# Altium footprint library FootPrintLib_4.PcbLib: 700 footprints (part 36 of 44)
Each footprint in its own frame and in the unit in brackets; x right, y up, seen from the top. Pads: shape width x height; smd on the part's side, far side on the other; paste and mask are expansions set on the pad; w line width, h text height; cw(c..) or ccw(c..) is an arc to the next point about the centre after c.
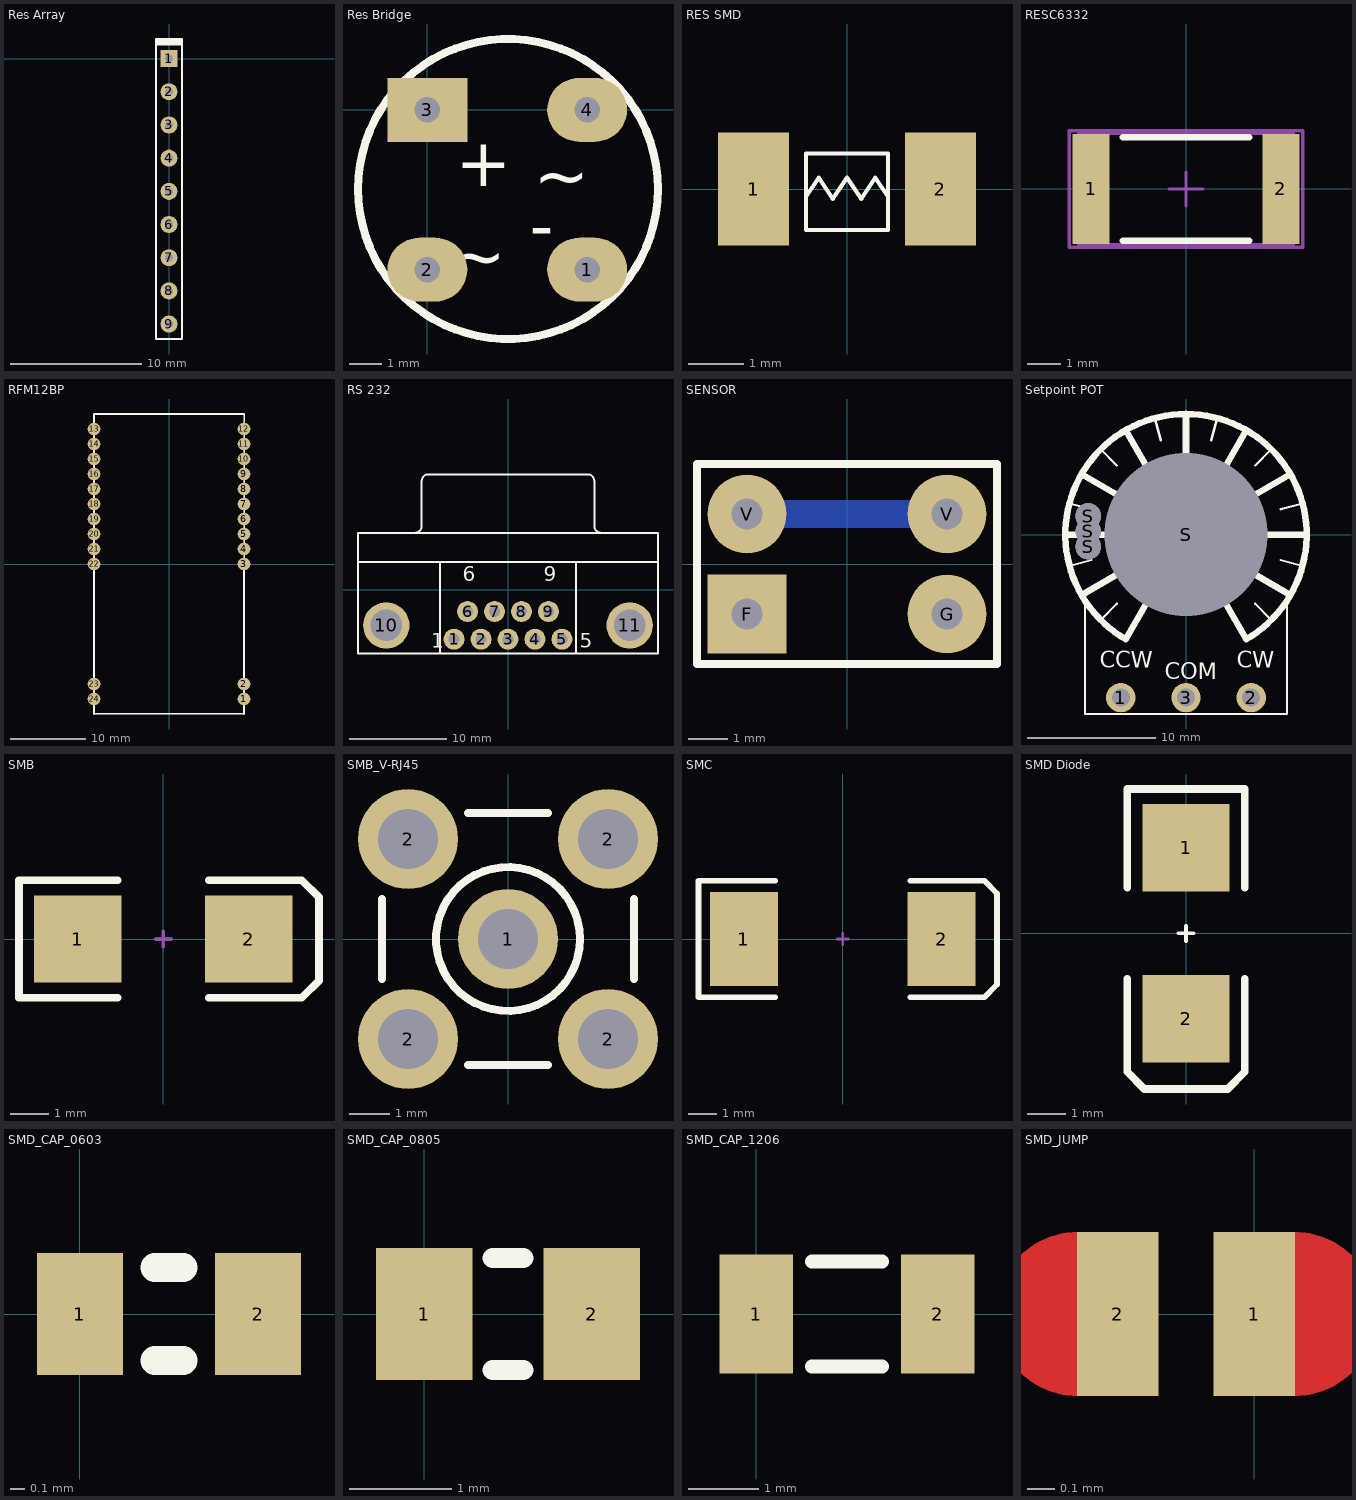
[diagram p35: the footprints below, top view; thin cyan lines are the x and y axes]

## Res Array [mm]
pads (9):
  rect 1.3x1.3 hole 0.6: 1(0,0)
  round 1.3 hole 0.6: 2(0,-2.54) 3(0,-5.08) 4(0,-7.62) 5(0,-10.16) 6(0,-12.7) 7(0,-15.24) 8(0,-17.78) 9(0,-20.32)
Top Overlay:
  rectangle: -1,1 1,1.5
  lines w0.178: -1,-21.463 -1,1.5 1,1.5 1,-21.463 -1,-21.463
3D body "SW3dPS-80015102.step": height 5.4, standoff -3.1, extent -0.625,-21.375 0.625,1.125

## Res Bridge [mm]
pads (4):
  oval 2.5x2 hole 0.8: 1(5,-5) 2(0,-5) 4(5,0)
  rect 2.5x2 hole 0.8: 3(0,0)
Top Overlay:
  circle w0.254: c2.523,-2.477 r4.695
  text "~" at 0.711,-5.319 h1.52
  text "~" at 3.327,-2.794 h1.52
  text "-" at 3.2,-4.369 h1.52
  text "+" at 0.889,-2.388 h1.52

## RES SMD [mil]
pads (2):
  rect 50x80 smd: 1(-66,0) 2(66,0)
Top Overlay:
  lines w3: -28.77,-5.15 -20,8 -10,-7 0,8 10,-7 20,8 28.77,-5.15 ; -29,-29 29,-29 29,25 -29,25 -29,-29

## RESC6332 [mm] "Chip Resistor, Body 6.3x3.2mm, IPC High Density"
height 0.9
pads (2):
  rect 1.1x3.3 smd: 1(-2.85,0) 2(2.85,0)
Top Overlay:
  lines w0.2: -1.9,-1.55 1.9,-1.55 ; -1.9,1.55 1.9,1.55
Mechanical 13:
  lines w0.1: -3.225,-1.675 -3.225,1.675 3.225,1.675 3.225,-1.675 -3.225,-1.675
Mechanical 15:
  lines w0.1: -0.5,0 0.5,0 ; 0,-0.5 0,0.5 ; -3.5,-1.75 -3.5,1.75 3.5,1.75 3.5,-1.75 -3.5,-1.75
3D body: height 0.9, standoff 0, extent -3.225,-1.675 3.225,1.675

## RFM12BP [mm]
pads (24):
  round 1.7 smd: 1(9.967,-17.985) 2(9.967,-15.985) 3(9.967,0.015) 4(9.967,2.015) 5(9.967,4.015) 6(9.967,6.015) 7(9.967,8.015) 8(9.967,10.015) 9(9.967,12.015) 10(9.967,14.015) 11(9.967,16.015) 12(9.967,18.015) 13(-10.033,18.015) 14(-10.033,16.015) 15(-10.033,14.015) 16(-10.033,12.015) 17(-10.033,10.015) 18(-10.033,8.015) 19(-10.033,6.015) 20(-10.033,4.015) 21(-10.033,2.015) 22(-10.033,0.015) 23(-10.033,-15.985) 24(-10.033,-17.985)
Top Overlay:
  lines w0.203: -10.033,-19.99 -10.033,20.015 10.033,20.015 9.967,-19.985 ; -10.033,-19.985 9.967,-19.99

## RS 232 [mm]
pads (11):
  round 2.159 hole 1.09: 1(-5.54,-5.078) 2(-2.77,-5.078) 3(0,-5.078) 4(2.77,-5.078) 5(5.54,-5.078) 6(-4.155,-2.238) 7(-1.385,-2.238) 8(1.385,-2.238) 9(4.155,-2.238)
  round 4.76 hole 3.26: 10(-12.495,-3.658) 11(12.495,-3.658)
Top Overlay:
  lines w0.2: -15.4,2.842 15.4,2.842 ; -9.56,5.847 ccw(c-9.56,6.542) -8.865,6.542 -8.865,11.142 ; -8.86,11.147 cw(c-8.165,11.147) -8.165,11.842 8.165,11.842 cw(c8.165,11.147) 8.86,11.147 ; -7,-6.558 -7,2.842 ; 7,-6.558 7,2.842 ; 8.865,11.142 8.865,6.542 ccw(c9.56,6.542) 9.56,5.847 ; -15.4,-6.558 -15.4,5.842 15.4,5.842 15.4,-6.558 -15.4,-6.558
  text "1" at -7.874,-5.969 h1.5
  text "5" at 7.366,-5.969 h1.5
  text "9" at 3.655,0.867 h1.5
  text "6" at -4.655,0.867 h1.5

## SENSOR [mm]
pads (4):
  rect 2x2 hole 0.8: F(-2.54,-1.27)
  round 2 hole 0.8: G(2.54,-1.27) V(-2.54,1.27) V(2.54,1.27)
Bottom Layer:
  lines w0.7: -2.54,1.27 2.54,1.27
Top Overlay:
  lines w0.2: -1.058,-2.54 3.81,-2.54 ; 3.81,-2.54 -3.81,-2.54 -3.81,2.54 3.81,2.54 3.81,-2.54

## Setpoint POT [mil]
pads (7):
  round 90 hole 55: 1(-200,-500) 2(200,-500) 3(0,-500)
  round 78.74 hole 78.74: S(-300,-37) S(-300,10) S(-300,57)
  round 492.13 hole 500: S(0,0)
Top Overlay:
  lines w7: -357.39,-95.76 -289.78,-77.65 ; -357.39,95.76 -289.78,77.65 ; -310,-200 -310,-550 310,-550 310,-200 ; -261.63,-261.63 -212.13,-212.13 ; -261.63,261.63 -212.13,212.13 ; -95.76,357.39 -77.65,289.78 ; 77.65,289.78 95.76,357.39 ; 212.13,-212.13 261.63,-261.63 ; 212.13,212.13 261.63,261.63 ; 289.78,-77.65 357.39,-95.76 ; 289.78,77.65 357.39,95.76
  lines w20: -370,0 -250,0 ; -320.43,-185 -216.51,-125 ; -320.43,185 -216.51,125 ; -185,320.43 -125,216.51 ; -125,-216.51 -185,-320.43 cw(c0,0) 185,-320.43 125,-216.51 ; 0,250 0,370 ; 125,216.51 185,320.43 ; 216.51,-125 320.43,-185 ; 216.51,125 320.43,185 ; 250,0 370,0
  text "CCW" at -264,-408 h50
  text "CW" at 155,-408 h50
  text "COM" at -65,-443 h50
3D body "volome cover2.STEP": height 1728.35, standoff 940.94, extent -298.41,-333.62 298.84,289.78
3D body "POT.STEP": height -636.77, standoff -1642.99, extent -310,-661 310,308.35

## SMB [mm] "DO-214-AA/SMB; 2 C-Bend Leads; Body 5.3 x 3.6 mm, inc. leads (LxW)"
height 2.54
pads (2):
  rect 2.3x2.3 smd: 1(-2.25,0) 2(2.25,0)
Top Overlay:
  lines w0.2: -1.2,-1.55 -3.8,-1.55 -3.8,1.55 -1.2,1.55 ; 1.2,-1.55 3.65,-1.55 4.1,-1.1 4.1,1.1 3.65,1.55 1.2,1.55
Mechanical 1:
  lines w0.1: -0.2,0 0.2,0 ; 0,-0.2 0,0.2

## SMB_V-RJ45 [mm] "Connector; SMB Straight"
pads (5):
  round 2.5 hole 1.5: 1(0,0) 2(-2.5,-2.5) 2(-2.5,2.5) 2(2.5,-2.5) 2(2.5,2.5)
Top Overlay:
  circle w0.2: c0,0 r1.8
  lines w0.2: -3.15,-1 -3.15,1 ; -1,-3.15 1,-3.15 ; -1,3.15 1,3.15 ; 3.15,-1 3.15,1
Mechanical 1:
  circle w0.025: c0,0 r1.8
  circle w0.025: c0,0 r1.05
  circle w0.025: c0,0 r0.2

## SMC [mm] "DO-214-AB/SMC; 2 C-Bend Leads; Body 7.9 x 5.9 mm, inc. leads (LxW)"
height 2.65
pads (2):
  rect 2.4x3.3 smd: 1(-3.475,0) 2(3.475,0)
Top Overlay:
  lines w0.2: -2.375,-2.05 -5.075,-2.05 -5.075,2.05 -2.375,2.05 ; 2.375,-2.05 4.975,-2.05 5.425,-1.6 5.425,1.6 4.975,2.055 ; 2.375,2.05 4.975,2.05
Mechanical 1:
  lines w0.1: -0.2,0 0.2,0 ; 0,-0.2 0,0.2

## SMD Diode [mm]
pads (2):
  rect 2.3x2.3 smd: 1(0,2.25) 2(0,-2.25)
Top Overlay:
  lines w0.1: -0.2,0 0.2,0 ; 0,-0.2 0,0.2
  lines w0.2: -1.55,-1.2 -1.55,-3.65 -1.1,-4.1 1.1,-4.1 1.55,-3.65 1.55,-1.2 ; -1.55,1.2 -1.55,3.8 1.55,3.8 1.55,1.2
3D body "User Library-Diode Molded Body.STEP": height 2.31, standoff 0.02, extent -1.321,-2.565 1.279,2.535

## SMD_CAP_0603 [mm]
pads (2):
  rect 0.6x0.85 smd: 1(0,0) 2(1.244,0)
Top Overlay:
  lines w0.2: 0.522,-0.325 0.722,-0.325 ; 0.522,0.325 0.722,0.325
3D body "cap 0603.STEP": height 0.6, standoff 0, extent -0.14,-0.381 1.384,0.381

## SMD_CAP_0805 [mm]
pads (2):
  rect 0.95x1.3 smd: 1(0,0) 2(1.65,0)
Top Overlay:
  lines w0.2: 0.675,-0.55 0.975,-0.55 ; 0.675,0.55 0.975,0.55
3D body "cap 0805.STEP": height 0.65, standoff 0, extent -0.191,-0.635 1.841,0.635

## SMD_CAP_1206 [mm]
pads (2):
  rect 1.05x1.7 smd: 1(0,0) 2(2.596,0)
Top Overlay:
  lines w0.2: 0.798,-0.75 1.798,-0.75 ; 0.798,0.75 1.798,0.75
3D body "cap 1206.STEP": height 0.75, standoff 0, extent -0.224,-0.775 2.824,0.749

## SMD_JUMP [mm]
pads (2):
  rect 0.3x0.6 smd: 1(0,0) 2(-0.5,0)
Top Layer:
  lines w0.3: -0.65,-0.15 cw(c-0.65,0) -0.65,0.15 ; 0.15,-0.15 ccw(c0.15,0) 0.15,0.15